# Altium schematic symbol library 912283001.SchLib: 1 symbol
Pins are listed as number, name and electrical type; pins without a type are passive.

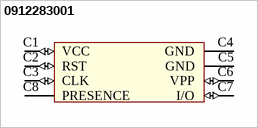
[diagram p0: symbol 0912283001]

## 0912283001
designator SIM?  (value not drawn)
CONN SIM CARD PUSH-PUSH R/A SMD; Manufacturer: Molex, LLC; Other Names: WM24086CT; Connector Type: Connector and Ejector; Digi-Key Part Number: WM24086CT-ND; Manufacturer Part Number: 0912283001
footprint 91228-3001_912283001(Primary)
pins: C1 VCC (io), C2 RST (io), C3 CLK (io), C4 GND (power), C5 GND (power), C6 VPP (io), C7 I/O (io), C8 PRESENCE